# Altium schematic symbol library PMEG3020DEP_115.SchLib: 1 symbol
Pins are listed as number, name and electrical type; pins without a type are passive.

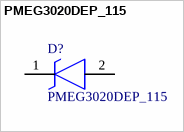
[diagram p0: symbol PMEG3020DEP_115]

## PMEG3020DEP_115
designator D?
Diode Schottky 30V 2A MEGA Auto SOD-128; Manufacturer_Name: Nexperia; Manufacturer_Part_Number: PMEG3020DEP,115; RS Part Number: 1513051; RS Price/Stock: http://uk.rs-online.com/web/p/products/1513051; Arrow Part Number: PMEG3020DEP,115; Arrow Price/Stock: https://www.arrow.com/en/products/pmeg3020dep115/nexperia; Datasheet Link: https://assets.nexperia.com/documents/data-sheet/PMEG3020DEP.pdf
footprint SOD128
pins: 1 K, 2 A